# EAGLE library part A2035-H (library smaria)
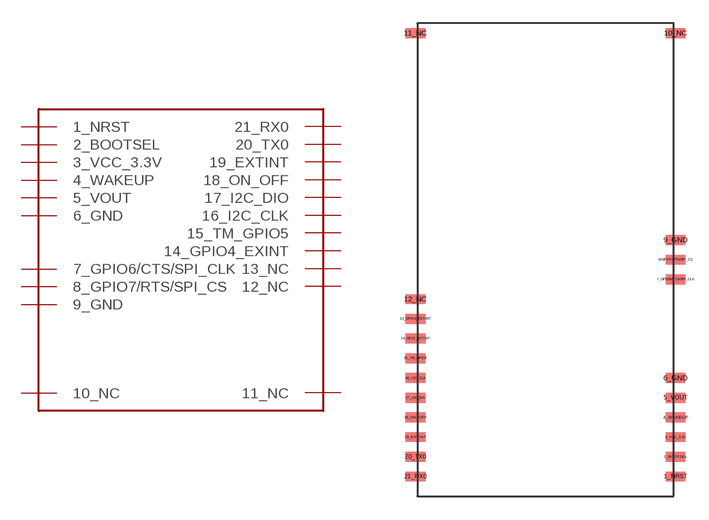
[diagram p0: symbol with the pads of A2035H; footprint A2035H]

Designator prefix -

## A2035-H  [A2035H]
1_NRST  1_NRST
2_BOOTSEL  2_BOOTSEL
3_VCC_3.3V  3_VCC_3.3V
4_WAKEUP  4_WAKEUP
5_VOUT  5_VOUT
6_GND  6_GND
7_GPIO6/CTS/SPI_CLK  7_GPIO6/CTS/SPI_CLK
8/GPIO7/RTS/SPI_CS  8_GPIO7/RTS/SPI_CS
9_GND  9_GND
10_NC  10_NC
11_NC  11_NC
12_NC  12_NC
13_GPIO4_EXTINT  13_NC
14_GPIO_EXTINT  14_GPIO4_EXINT
15_TM_GPIO5  15_TM_GPIO5
16_I2C_CLK  16_I2C_CLK
17_I2C_DIO  17_I2C_DIO
18_ON_OFF  18_ON_OFF
19_EXTINT  19_EXTINT
20_TX0  20_TX0
21_RX0  21_RX0

## Footprint A2035H (pad centres in mm)
smd 1.27 x 0.635: 1_NRST 16.637,1.27; 2_BOOTSEL 16.637,2.54; 3_VCC_3.3V 16.637,3.81; 4_WAKEUP 16.637,5.08; 5_VOUT 16.637,6.35; 6_GND 16.637,7.62; 7_GPIO6/CTS/SPI_CLK 16.637,13.97; 8/GPIO7/RTS/SPI_CS 16.637,15.24; 9_GND 16.637,16.51; 10_NC 16.637,29.845; 11_NC -0.127,29.845; 12_NC -0.127,12.7; 13_GPIO4_EXTINT -0.127,11.43; 14_GPIO_EXTINT -0.127,10.16; 15_TM_GPIO5 -0.127,8.89; 16_I2C_CLK -0.127,7.62; 17_I2C_DIO -0.127,6.35; 18_ON_OFF -0.127,5.08; 19_EXTINT -0.127,3.81; 20_TX0 -0.127,2.54; 21_RX0 -0.127,1.27